# Altium footprint library Seeed-OPL-sensor.PCBLIB: 57 footprints (part 1 of 4)
Each footprint in its own frame and in the unit in brackets; x right, y up, seen from the top. Pads: shape width x height; smd on the part's side, far side on the other; paste and mask are expansions set on the pad; w line width, h text height; cw(c..) or ccw(c..) is an arc to the next point about the centre after c.
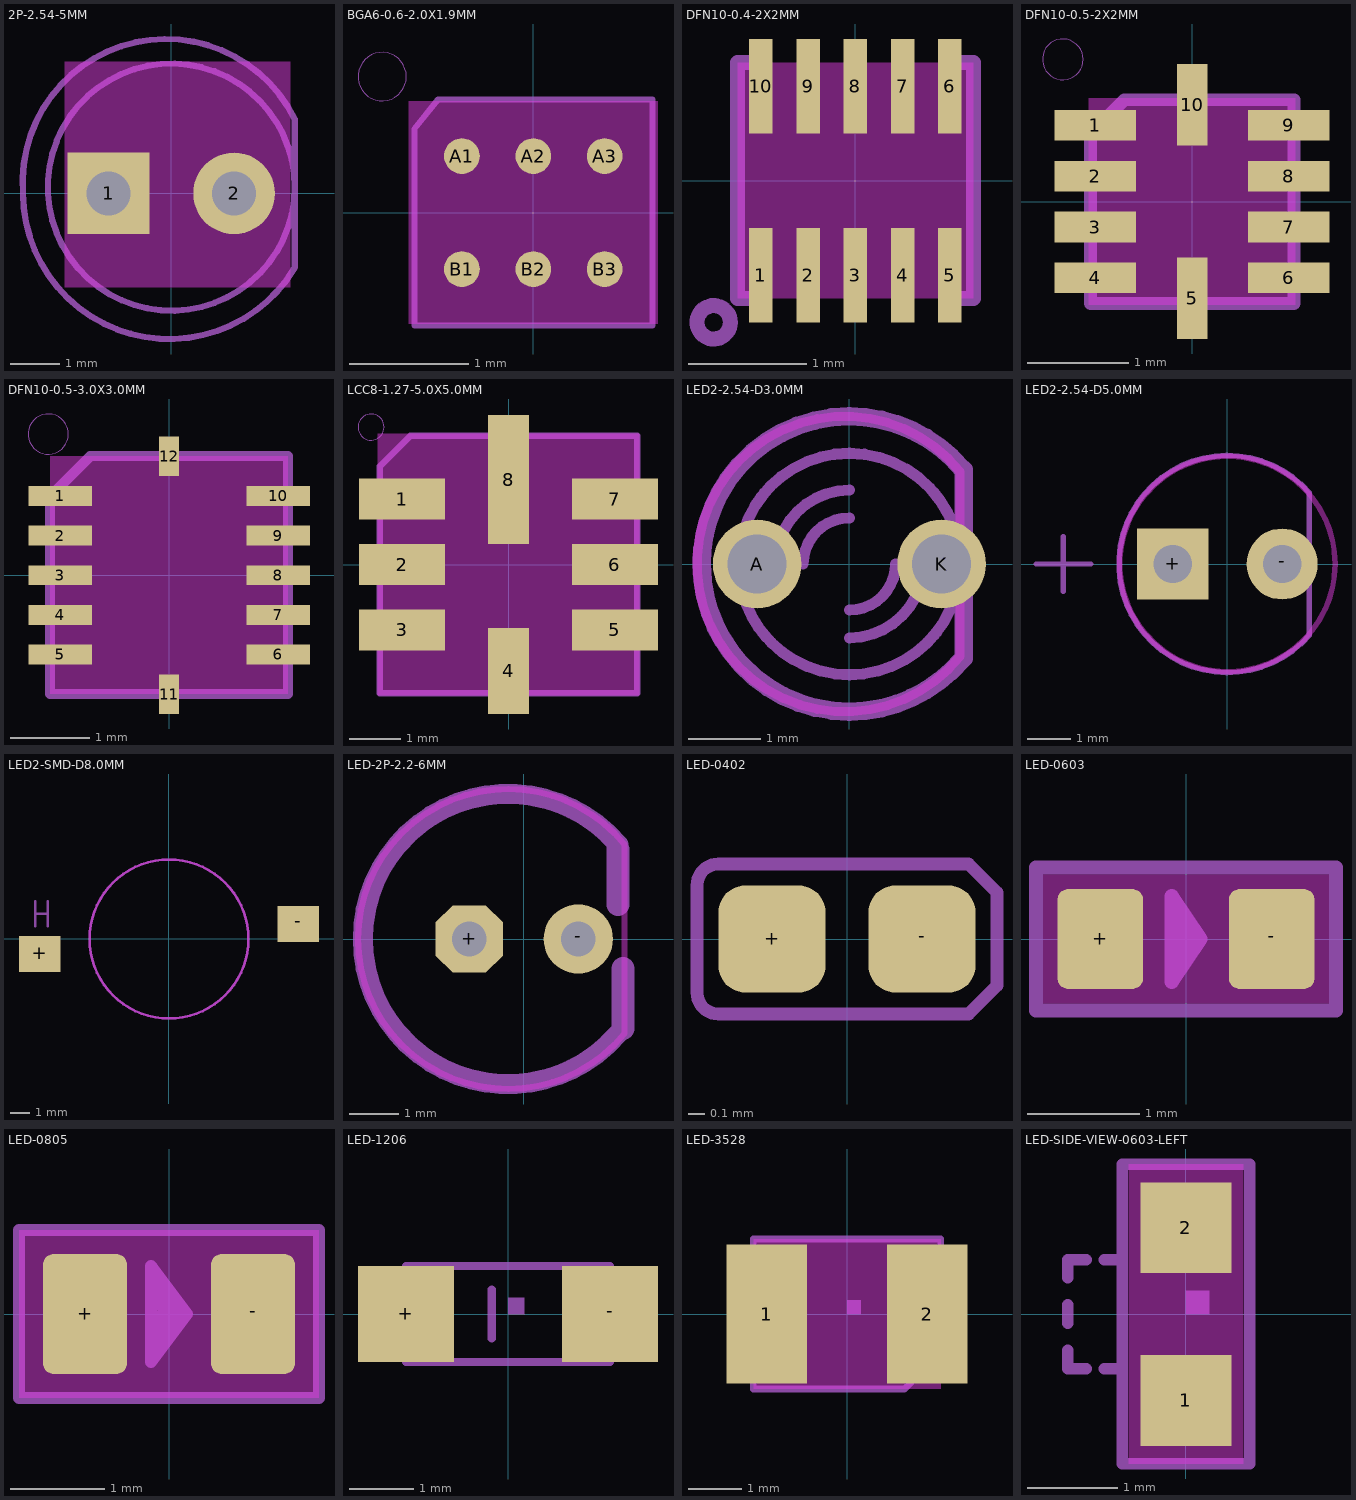
[diagram p0: the footprints below, top view; thin cyan lines are the x and y axes]

## 2P-2.54-5MM [mil]
pads (2):
  rect 65x65 hole 35: 1(-50,0)
  round 65 hole 35: 2(50,0)
Keep-Out Layer:
  rectangle: -85,-75 95,105
Mechanical 2:
  circle w5: c0,5 r98.43
  lines w5: -118.11,0 ccw(c-1.66,0.46) 98.43,-59.06 98.43,59.06 ccw(c-4.15,8.68) -118.11,0

## BGA6-0.6-2.0X1.9MM [mm]
pads (6):
  rrect100% 0.3x0.3 smd: A1(-0.6,0.475) A2(0,0.475) A3(0.6,0.475) B1(-0.6,-0.475) B2(0,-0.475) B3(0.6,-0.475)
Keep-Out Layer:
  rectangle: -1.048,-0.938 1.048,0.938
Mechanical 2:
  circle w0: c-1.27,1.143 r0.203
  lines w0.05: -1,-0.95 -1,0.701 -0.8,0.95 1,0.95 1,-0.95 -1,-0.95

## DFN10-0.4-2X2MM [mil]
pads (10):
  rect 7.87x31.5 smd: 1(-31.5,-31.5) 2(-15.75,-31.5) 3(0,-31.5) 4(15.75,-31.5) 5(31.5,-31.5) 6(31.5,31.5) 7(15.75,31.5) 8(0,31.5) 9(-15.75,31.5) 10(-31.5,31.5)
Keep-Out Layer:
  rectangle: -39.37,-39.37 39.37,39.37
Mechanical 2:
  circle w5: c-47.24,-47.24 r5.57
  lines w5: -35.43,-39.37 -39.37,-39.37 -39.37,39.37 -35.43,39.37 ; 35.43,-39.37 39.37,-39.37 39.37,39.37 35.43,39.37

## DFN10-0.5-2X2MM [mil]
pads (10):
  rect 31.5x11.81 smd: 1(-37.4,29.53) 2(-37.4,9.84) 3(-37.4,-9.84) 4(-37.4,-29.53) 6(37.4,-29.53) 7(37.4,-9.84) 8(37.4,9.84) 9(37.4,29.53)
  rect 11.81x31.5 smd: 5(0,-37.4) 10(0,37.4)
Keep-Out Layer:
  rectangle: -40,-40 40,40
Mechanical 2:
  circle w0: c-50,55 r7.87
  lines w5: -39.37,-39.37 -39.37,26.12 -26.12,39.37 39.37,39.37 39.37,-39.37 -39.37,-39.37

## DFN10-0.5-3.0X3.0MM [mil]
pads (12):
  rect 31.5x9.84 smd: 1(-54.13,39.37) 2(-54.13,19.69) 3(-54.13,0) 4(-54.13,-19.69) 5(-54.13,-39.37) 6(54.13,-39.37) 7(54.13,-19.69) 8(54.13,0) 9(54.13,19.69) 10(54.13,39.37)
  rect 9.84x19.69 smd: 11(0,-59.06) 12(0,59.06)
Keep-Out Layer:
  rectangle: -59.06,-59.06 59.06,59.06
Mechanical 2:
  circle w0: c-60,70 r10
  lines w5: -59.06,-59.06 -59.06,39.18 -39.18,59.06 59.06,59.06 59.06,-59.06 -59.06,-59.06

## LCC8-1.27-5.0X5.0MM [mil]
pads (8):
  rect 65.75x31.5 smd: 1(-81.3,50) 2(-81.3,0) 3(-81.3,-50) 5(81.3,-50) 6(81.3,0) 7(81.3,50)
  rect 31.5x65.75 smd: 4(0,-81.3)
  rect 31.5x98.43 smd: 8(0,64.96)
Keep-Out Layer:
  rectangle: -100,-100 100,100
Mechanical 2:
  circle w0: c-105,105 r10
  lines w5: -98.43,-98.43 -98.43,74.95 -74.95,98.43 98.43,98.43 98.43,-98.43 -98.43,-98.43

## LED2-2.54-D3.0MM [mil]
pads (2):
  round 48 hole 32: A(-50,0) K(50,0)
Keep-Out Layer:
  lines w5: 60,-50 cw(c-2.5,0) 60,50 60,-50
Mechanical 2:
  lines w6: -48,36 cw(c0,0) 0,60 cw(c-0.01,0) 48.82,34.87 ; -47.36,-36.83 ccw(c0.01,0) 0,-60 ccw(c-0.01,0) 47.36,-36.83
  lines w10: -70.59,37.65 cw(c0,0) 0,80 cw(c0.01,0) 61.46,51.22 ; -69.46,-39.69 ccw(c0,0) 0,-80 ccw(c0,0) 61.07,-51.68 ; 62,-51 62,-33 ; 62,31 62,51
Mechanical 18:
  lines w6: -46.09,38.41 ccw(c0,-0.01) -60,0 ccw(c0,-0.01) -44.85,-39.86 ; -40,0 cw(c0,0) 0,40 ; -25,0 cw(c0,0) 0,25 ; 0,-40 ccw(c0,0) 40,0 ; 0,-25 ccw(c0,0) 25,0 ; 45.56,39.05 cw(c0,0.01) 60,0 cw(c0,0.01) 46.09,-38.41
  lines w10: -70.44,37.93 ccw(c0,0.01) -80,0 ccw(c0,0) -68.13,-41.93 ; 62,-50 62,50

## LED2-2.54-D5.0MM [mil]
pads (2):
  rect 65x65 hole 35: +(-49.99,0)
  round 65 hole 35: -(49.99,0)
Keep-Out Layer:
  circle w5: c0,0 r98.43
Mechanical 2:
  lines w5: -175,0 -150,0 ; -150,-25 -150,0 ; -150,25 -150,0 ; -125,0 -150,0 ; 74.8,-62.99 74.8,-35.43 ; 74.8,31.5 74.8,64.96 ; 75,-65 cw(c0,0) 75,65
Mechanical 18:
  lines w5: 75,-65 75,65

## LED2-SMD-D8.0MM [mm]
pads (2):
  rect 2.1x1.8 smd: +(-6.5,-0.75) -(6.5,0.75)
Keep-Out Layer:
  circle w0.127: c0,0 r4
Mechanical 2:
  circle w0.127: c0,0 r4
  lines w0.127: -6.731,0.635 -6.731,1.27 ; -6.731,1.905 -6.731,1.27 ; -6.096,0.635 -6.096,1.905 ; -6.096,1.27 -6.731,1.27

## LED-2P-2.2-6MM [mm]
pads (2):
  oct 1.356x1.356 hole 0.7: +(-1.1,0)
  round 1.4 hole 0.7: -(1.1,0)
Keep-Out Layer:
  lines w0.127: 2.032,-1.905 cw(c-0.318,0) 2.032,1.905 2.032,-1.905
Mechanical 2:
  lines w0.406: 1.905,-1.905 cw(c-0.317,0) 1.905,1.905
  lines w0.464: 1.9,0.7 1.9,1.8 ; 2,-1.8 2,-0.6

## LED-0402 [mil]
pads (2):
  rrect50% 25x25 smd: +(-17.5,0) -(17.5,0)
Mechanical 2:
  lines w3: -35,-12.5 ccw(c-30,-12.5) -30,-17.5 28.32,-17.5 35,-10.82 35,10.82 28.32,17.5 -30,17.5 ccw(c-30,12.5) -35,12.5 -35,-12.5

## LED-0603 [mil]
pads (2):
  rrect25% 30x35 smd: +(-30,0) -(30,0)
Keep-Out Layer:
  rectangle: -50,-22.5 50,22.5
Mechanical 2:
  lines w5: -2.5,-10 -2.5,10 ; 0,-7.5 -5,-15 -5,15 0,7.5 ; 0,-7.5 5,0 0,7.5 ; 0,-7.5 0,7.5 ; -52.5,-25 52.5,-25 52.5,25 -52.5,25 -52.5,-25

## LED-0805 [mil]
pads (2):
  rrect25% 35x50 smd: +(-35,0) -(35,0)
Keep-Out Layer:
  rectangle: -62.5,-35 62.5,35
Mechanical 2:
  lines w5: -7.5,-10 -7.5,0 ; -7.5,-10 -7.5,-20 0,-10 ; -7.5,-10 0,-10 ; -7.5,0 -7.5,10 ; -7.5,0 2.5,-5 -7.5,10 ; -7.5,0 0,-10 ; -7.5,10 -7.5,20 ; -7.5,10 5,-2.5 -7.5,20 ; -7.5,20 7.5,0 0,-10 ; -62.5,-35 62.5,-35 62.5,35 -62.5,35 -62.5,-35

## LED-1206 [mm]
pads (2):
  rect 1.5x1.5 smd: +(-1.6,0) -(1.6,0)
Mechanical 2:
  region: 0,0 0.254,0 0.254,0.254 0,0.254
  lines w0.127: -0.7,-0.75 0.7,-0.75 ; -0.7,0.75 0.7,0.75 ; -0.254,-0.381 -0.254,0.381
Mechanical 18:
  lines w0.127: -1.6,-0.75 1.6,-0.75 1.6,0.75 -1.6,0.75 -1.6,-0.75

## LED-3528 [mm]
pads (2):
  rect 1.5x2.6 smd: 1(-1.5,0) 2(1.5,0)
Keep-Out Layer:
  rectangle: -1.75,-1.4 1.75,1.4
Mechanical 2:
  region: 0,0 0.254,0 0.254,0.254 0,0.254
  lines w0.127: -0.6,-1.4 0.6,-1.4 ; -0.6,1.4 0.6,1.4
Mechanical 18:
  lines w0.127: -1.75,-1.4 1.073,-1.4 1.75,-0.723 1.75,1.4 -1.75,1.4 -1.75,-1.4

## LED-SIDE-VIEW-0603-LEFT [mm]
pads (2):
  rect 1x1 smd: 1(0,-0.95) 2(0,0.95)
Keep-Out Layer:
  region: 0.635,-1.651 0.635,1.651 -0.635,1.651 -0.635,-1.651
Mechanical 2:
  region: 0,0 0.254,0 0.254,0.254 0,0.254
  lines w0.127: -1.3,-0.4 -1.3,-0.6 -1.1,-0.6 ; -1.3,-0.1 -1.3,0.1 ; -1.3,0.4 -1.3,0.6 -1.1,0.6 ; -0.9,-0.6 -0.7,-0.6 ; -0.9,0.6 -0.7,0.6 ; -0.7,-0.6 -0.7,-1.65 0.7,-1.65 0.7,1.651 -0.7,1.65 -0.7,0.6 ; -0.7,-0.6 -0.7,0.6